# Altium footprint library HLGA2x2x0.9-6L.PcbLib: 1 footprints
Each footprint in its own frame and in the unit in brackets; x right, y up, seen from the top. Pads: shape width x height; smd on the part's side, far side on the other; paste and mask are expansions set on the pad; w line width, h text height; cw(c..) or ccw(c..) is an arc to the next point about the centre after c.
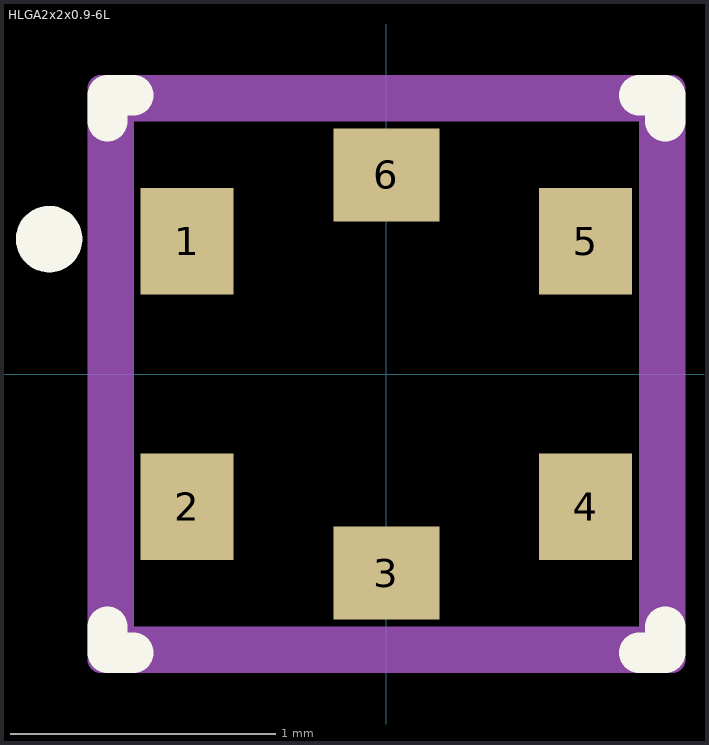
[diagram p0: the footprint, top view; thin cyan lines are the x and y axes]

## HLGA2x2x0.9-6L [mm] "Pitch 0.75mm Body2x2mm High0.9mm"
height 0.9
pads (6):
  rect 0.35x0.4 smd: 1(-0.75,0.5) 2(-0.75,-0.5) 4(0.75,-0.5) 5(0.75,0.5)
  rect 0.4x0.35 smd: 3(0,-0.75) 6(0,0.75)
Top Overlay:
  circle w0.15: c-1.27,0.508 r0.05
  lines w0.152: -1.05,-0.952 -1.05,-1.05 -0.952,-1.05 ; -1.05,0.952 -1.05,1.05 -0.952,1.05 ; 0.952,-1.05 1.05,-1.05 1.05,-0.952 ; 0.952,1.05 1.05,1.05 1.05,0.952
Mechanical 13:
  lines w0.1: -1,-1 1,-1 1,1 -1,1 -1,-1
Mechanical 15:
  lines w0.1: -1.076,-1.076 1.076,-1.076 1.076,1.076 -1.076,1.076 -1.076,-1.076
3D body: height 0.98, standoff -0.02, extent -1,-1 1,1